# Altium schematic symbol library C1210X153KDRACTU.SchLib: 2 symbols
Pins are listed as number, name and electrical type; pins without a type are passive.

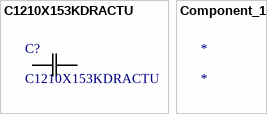
[diagram p0: symbols C1210X153KDRACTU to Component_1]

## C1210X153KDRACTU
designator C?
No Description Available; Mfr_Name: Kemet; Type: DEV; Copyright: Copyright (C) 2022 Ultra Librarian. All rights reserved.; Manufacturer_Part_Number: C1210X153KDRACTU; RefDes: RefDes
footprint CAPC370290_155N_KEM
pins: 1, 2

## Component_1
designator *